# EAGLE library part CARRIER-V2 (library cdp)
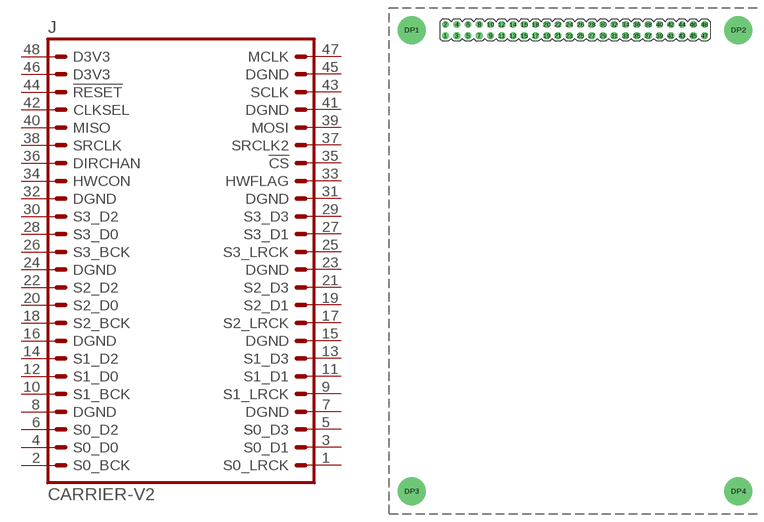
[diagram p27: symbol with the pads of MA24-2; footprint MA24-2]

Designator prefix J

## CARRIER-V2  [MA24-2]
1  S0_LRCK  pas
2  S0_BCK  pas
3  S0_D1  pas
4  S0_D0  pas
5  S0_D3  pas
6  S0_D2  pas
7  DGND  pas
8  DGND  pas
9  S1_LRCK  pas
10  S1_BCK  pas
11  S1_D1  pas
12  S1_D0  pas
13  S1_D3  pas
14  S1_D2  pas
15  DGND  pas
16  DGND  pas
17  S2_LRCK  pas
18  S2_BCK  pas
19  S2_D1  pas
20  S2_D0  pas
21  S2_D3  pas
22  S2_D2  pas
23  DGND  pas
24  DGND  pas
25  S3_LRCK  pas
26  S3_BCK  pas
27  S3_D1  pas
28  S3_D0  pas
29  S3_D3  pas
30  S3_D2  pas
31  DGND  pas
32  DGND  pas
33  HWFLAG  pas
34  HWCON  pas
35  !CS  pas
36  DIRCHAN  pas
37  SRCLK2  pas
38  SRCLK  pas
39  MOSI  pas
40  MISO  pas
41  DGND  pas
42  CLKSEL  pas
43  SCLK  pas
44  !RESET  pas
45  DGND  pas
46  D3V3  pas
47  MCLK  pas
48  D3V3  pas

## Footprint MA24-2 (pad centres in mm)
drill 1.016 octagon: 1 -29.21,-1.27; 2 -29.21,1.27; 3 -26.67,-1.27; 4 -26.67,1.27; 5 -24.13,-1.27; 6 -24.13,1.27; 7 -21.59,-1.27; 8 -21.59,1.27; 9 -19.05,-1.27; 10 -19.05,1.27; 11 -16.51,-1.27; 12 -16.51,1.27; 13 -13.97,-1.27; 14 -13.97,1.27; 15 -11.43,-1.27; 16 -11.43,1.27; 17 -8.89,-1.27; 18 -8.89,1.27; 19 -6.35,-1.27; 20 -6.35,1.27; 21 -3.81,-1.27; 22 -3.81,1.27; 23 -1.27,-1.27; 24 -1.27,1.27; 25 1.27,-1.27; 26 1.27,1.27; 27 3.81,-1.27; 28 3.81,1.27; 29 6.35,-1.27; 30 6.35,1.27; 31 8.89,-1.27; 32 8.89,1.27; 33 11.43,-1.27; 34 11.43,1.27; 35 13.97,-1.27; 36 13.97,1.27; 37 16.51,-1.27; 38 16.51,1.27; 39 19.05,-1.27; 40 19.05,1.27; 41 21.59,-1.27; 42 21.59,1.27; 43 24.13,-1.27; 44 24.13,1.27; 45 26.67,-1.27; 46 26.67,1.27; 47 29.21,-1.27; 48 29.21,1.27
drill 3.175 pad 6.35 round: DP1 -36.83,0; DP2 36.83,0; DP3 -36.83,-104.14; DP4 36.83,-104.14